# Altium footprint library TLP521-1.PcbLib: 1 footprints
Each footprint in its own frame and in the unit in brackets; x right, y up, seen from the top. Pads: shape width x height; smd on the part's side, far side on the other; paste and mask are expansions set on the pad; w line width, h text height; cw(c..) or ccw(c..) is an arc to the next point about the centre after c.
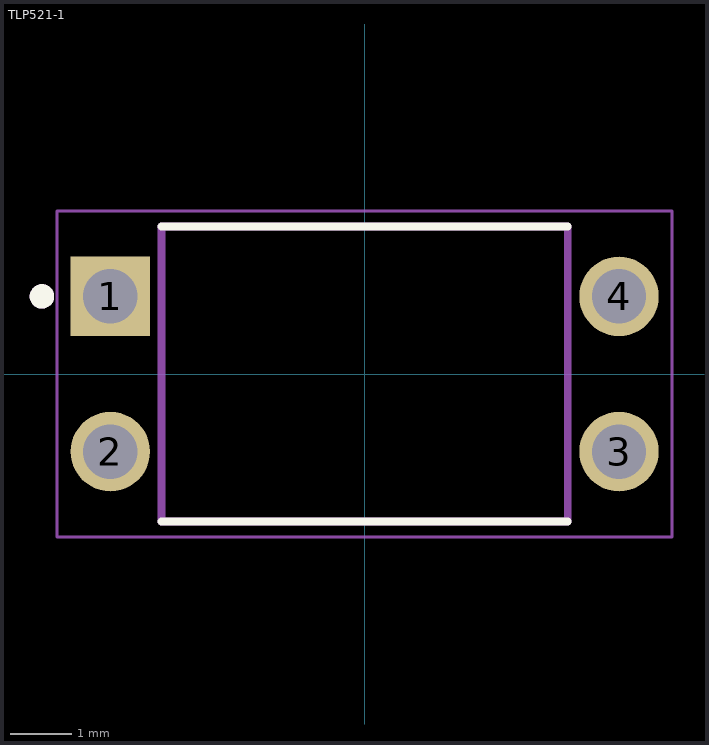
[diagram p0: the footprint, top view; thin cyan lines are the x and y axes]

## TLP521-1 [mm]
pads (4):
  rect 1.3x1.3 / inner round 1.24 / far side rect 1.24x1.24 hole 0.89: 1(-4.163,1.27)
  round 1.3 hole 0.89: 2(-4.163,-1.27) 3(4.163,-1.27) 4(4.163,1.27)
Top Overlay:
  circle w0.2: c-5.282,1.27 r0.1
  lines w0.127: -3.325,-2.415 3.325,-2.415 ; -3.325,2.415 3.325,2.415
Mechanical 13:
  circle w0.2: c-5.282,1.27 r0.1
  lines w0.127: -3.325,-2.415 3.325,-2.415 3.325,2.415 -3.325,2.415 -3.325,-2.415
Mechanical 15:
  lines w0.05: -5.032,-2.665 5.032,-2.665 5.032,2.665 -5.032,2.665 -5.032,-2.665
3D body "step_temp.STEP": height 4.85, standoff -2.5, extent -4.287,-2.29 4.287,2.29